# Altium schematic symbol library XTAL-4.SchLib: 1 symbol
Pins are listed as number, name and electrical type; pins without a type are passive.

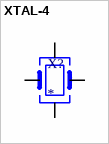
[diagram p0: symbol XTAL-4]

## XTAL-4
designator X?
pins: 1, 2, 3, 4